# Altium schematic symbol library BQ24392RSER.SchLib: 1 symbol
Pins are listed as number, name and electrical type; pins without a type are passive.

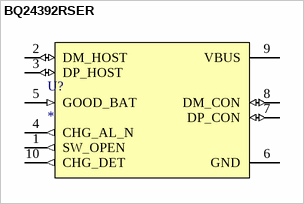
[diagram p0: symbol BQ24392RSER]

## BQ24392RSER
designator U?
pins: 1 SW_OPEN (out), 2 DM_HOST (io), 3 DP_HOST (io), 4 CHG_AL_N (out), 5 GOOD_BAT (in), 6 GND (power), 7 DP_CON (io), 8 DM_CON (io), 9 VBUS (power), 10 CHG_DET (out)